# Altium schematic symbol library ESP-07S.SchLib: 1 symbol
Pins are listed as number, name and electrical type; pins without a type are passive.

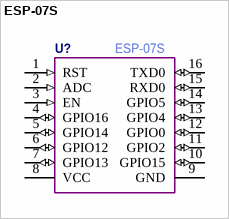
[diagram p0: symbol ESP-07S]

## ESP-07S
designator U?  Manufacturer Part Number: ESP-07S  (hidden comment: *)
pins: 1 RST (in), 2 ADC (in) "0-1V", 3 EN (in) "CHIP ENABLE, ACTIVE HIGH", 4 GPIO16 (io) "WAKE UP FROM DEEP SLEEP", 5 GPIO14 (io) "HSPI_CLK,SCL", 6 GPIO12 (io) "HSPI_MISO", 7 GPIO13 (io) "HSPI_MOSI,UART0_CS", 8 VCC (power) "3.3V", 9 GND (power), 10 GPIO15 (io) "MTDO,HSPI_CS,UART-0RTS", 11 GPIO2 (io) "UART1_TXD,SDA", 12 GPIO0 (io), 13 GPIO4 (io), 14 GPIO5 (io) "GPIO3", 15 RXD0 (io), 16 TXD0 (io) "GPIO1"